# EAGLE library part MAX682 (library Traficon)
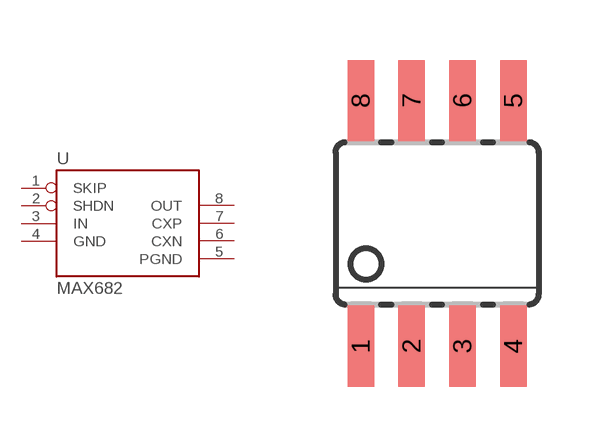
[diagram p204: symbol with the pads of SOIC08; footprint SOIC08]

Designator prefix U

## MAX682  [SOIC08]
1  SKIP  in
2  SHDN  in
3  IN  sup
4  GND  sup
5  PGND  sup
6  CXN
7  CXP
8  OUT  pwr

## Footprint SOIC08 (pad centres in mm)
Small Outline Package
smd 0.66 x 2.032: 1 -1.905,-3.073; 2 -0.635,-3.073; 3 0.635,-3.073; 4 1.905,-3.073; 5 1.905,3.073; 6 0.635,3.073; 7 -0.635,3.073; 8 -1.905,3.073